# Altium schematic symbol library KRL1220E-M-R010-F-T5.SchLib: 1 symbol
Pins are listed as number, name and electrical type; pins without a type are passive.

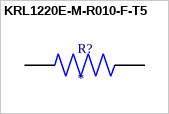
[diagram p0: symbol KRL1220E-M-R010-F-T5]

## KRL1220E-M-R010-F-T5
designator R?
10 mOhms Â±1% 0.5W, 1/2W Chip Resistor 0805 (2012 Metric) Automotive AEC-Q200, Current Sense Metal Foil; MF: Susumu; MP: KRL1220E-M-R010-F-T5; SnapEDA_Link: https://www.snapeda.com/parts/KRL1220E-M-R010-F-T5/Susumu/view-part/?ref=snap; Package: 2012 Susumu; Value: *; Check_prices: https://www.snapeda.com/parts/KRL1220E-M-R010-F-T5/Susumu/view-part/?ref=eda
footprint RESC2012X70N
pins: 1, 2